# EAGLE library part CC3000 (library jncc3000.lbrjncc3000)
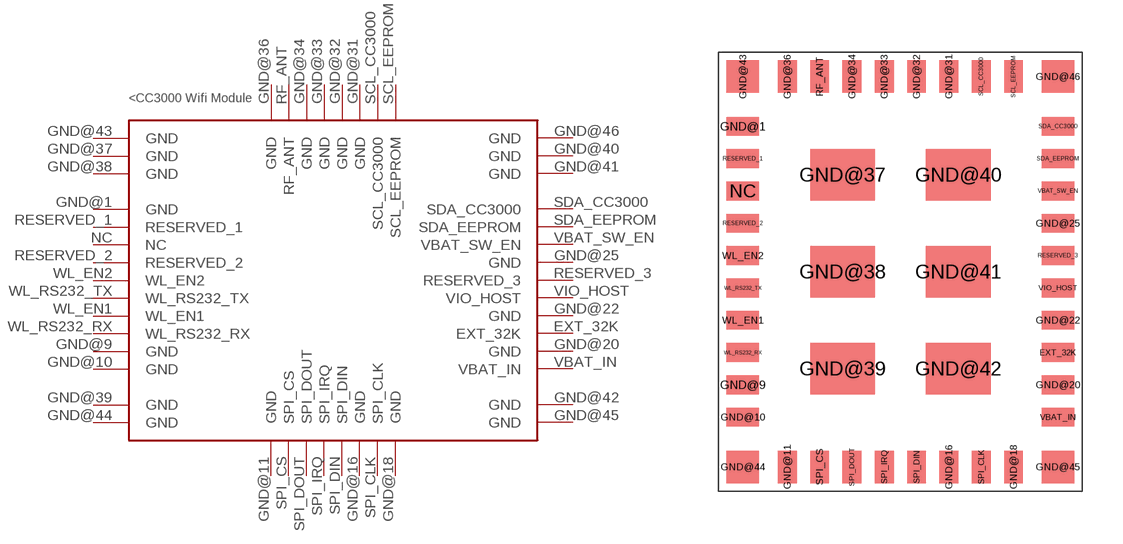
[diagram p0: symbol with the pads of CC3000; footprint CC3000]

Designator prefix -

## CC3000  [CC3000]
EXT_32K  EXT_32K
GND@1  GND  sup
GND@9  GND  sup
GND@10  GND  sup
GND@11  GND  sup
GND@16  GND  sup
GND@18  GND  sup
GND@20  GND  sup
GND@22  GND  sup
GND@25  GND  sup
GND@31  GND  sup
GND@32  GND  sup
GND@33  GND  sup
GND@34  GND  sup
GND@36  GND  pwr
GND@37  GND  sup
GND@38  GND  sup
GND@39  GND  sup
GND@40  GND  sup
GND@41  GND  sup
GND@42  GND  sup
GND@43  GND  sup
GND@44  GND  sup
GND@45  GND  sup
GND@46  GND  sup
NC  NC  nc
RESERVED_1  RESERVED_1
RESERVED_2  RESERVED_2
RESERVED_3  RESERVED_3
RF_ANT  RF_ANT
SCL_CC3000  SCL_CC3000
SCL_EEPROM  SCL_EEPROM
SDA_CC3000  SDA_CC3000
SDA_EEPROM  SDA_EEPROM
SPI_CLK  SPI_CLK  in
SPI_CS  SPI_CS  in
SPI_DIN  SPI_DIN  in
SPI_DOUT  SPI_DOUT  out
SPI_IRQ  SPI_IRQ  out
VBAT_IN  VBAT_IN  pwr
VBAT_SW_EN  VBAT_SW_EN  in
VIO_HOST  VIO_HOST  pwr
WL_EN1  WL_EN1  in
WL_EN2  WL_EN2  in
WL_RS232_RX  WL_RS232_RX  in
WL_RS232_TX  WL_RS232_TX  out

## Footprint CC3000 (pad centres in mm)
smd 1.2 x 0.7: EXT_32K 5.85,-2.97; GND@1 -5.85,5.43; GND@9 -5.85,-4.17; GND@10 -5.85,-5.37; GND@20 5.85,-4.17; GND@22 5.85,-1.77; GND@25 5.85,1.83; NC -5.85,3.03; RESERVED_1 -5.85,4.23; RESERVED_2 -5.85,1.83; RESERVED_3 5.85,0.63; SDA_CC3000 5.85,5.43; SDA_EEPROM 5.85,4.23; VBAT_IN 5.85,-5.37; VBAT_SW_EN 5.85,3.03; VIO_HOST 5.85,-0.57; WL_EN1 -5.85,-1.77; WL_EN2 -5.85,0.63; WL_RS232_RX -5.85,-2.97; WL_RS232_TX -5.85,-0.57
smd 0.7 x 1.2: GND@11 -4.2,-7.22; GND@16 1.8,-7.22; GND@18 4.2,-7.22; GND@31 1.8,7.28; GND@32 0.6,7.28; GND@33 -0.6,7.28; GND@34 -1.8,7.28; GND@36 -4.2,7.28; RF_ANT -3,7.28; SCL_CC3000 3,7.28; SCL_EEPROM 4.2,7.28; SPI_CLK 3,-7.22; SPI_CS -3,-7.22; SPI_DIN 0.6,-7.22; SPI_DOUT -1.8,-7.22; SPI_IRQ -0.6,-7.22
smd 2.4 x 1.9: GND@37 -2.15,3.63; GND@38 -2.15,0.03; GND@39 -2.15,-3.57; GND@40 2.15,3.63; GND@41 2.15,0.03; GND@42 2.15,-3.57
smd 1.2 x 1.2: GND@43 -5.85,7.28; GND@44 -5.85,-7.22; GND@45 5.85,-7.22; GND@46 5.85,7.28